# EAGLE library part BNO055 (library BNO055)
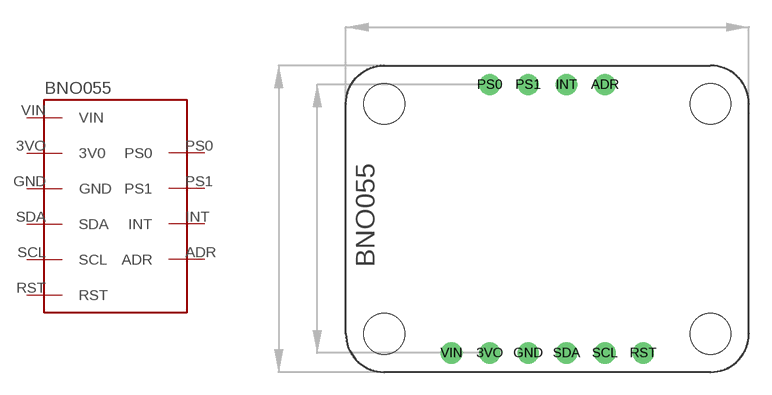
[diagram p0: symbol with the pads of BNO055; footprint BNO055]

Designator prefix -

## BNO055  [BNO055]
3VO  3V0
ADR  ADR
GND  GND
INT  INT
PS0  PS0
PS1  PS1
RST  RST
SCL  SCL
SDA  SDA
VIN  VIN

## Footprint BNO055 (pad centres in mm)
drill 0.9: 3VO -3.81,-8.89; ADR 3.81,8.89; GND -1.27,-8.89; INT 1.27,8.89; PS0 -3.81,8.89; PS1 -1.27,8.89; RST 6.35,-8.89; SCL 3.81,-8.89; SDA 1.27,-8.89; VIN -6.35,-8.89
hole 2.692 at -10.795,7.62
hole 2.692 at -10.795,-7.62
hole 2.692 at 10.795,-7.62
hole 2.692 at 10.795,7.62